# Altium integrated library Linear Technology Power Management Switching Regulator LTC1174-LTC3901.IntLib: 2647 symbols (part 185 of 364)
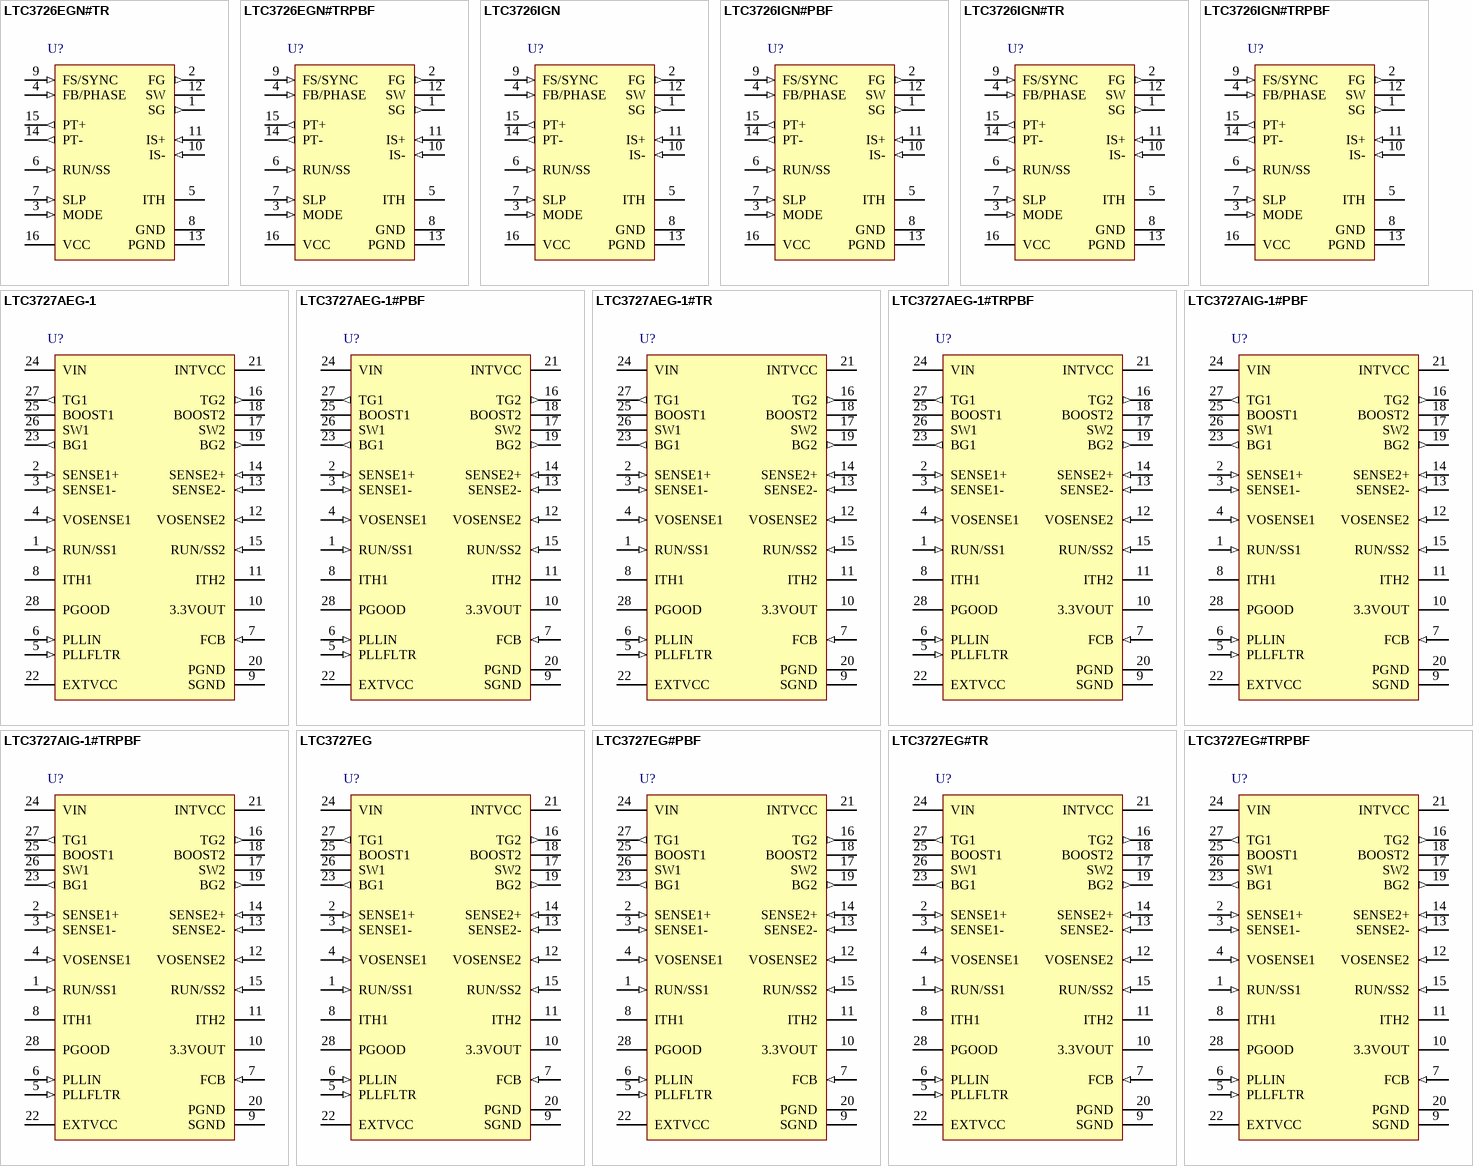
[diagram p309: symbols LTC3726EGN#TR to LTC3727EG#TRPBF]

## LTC3727AEG-1#TRPBF
designator U?
High Efficiency, 2-Phase Synchronous Step-Down Switching Regulator, 28-pin SOP (G-28), -40 to 85 degC, Pb-Free, Tape and Reel; Manufacturer: Linear Technology; PartNumber: LTC3727AEG-1#TRPBF; Frequency Sync Range: 250kHz - 550kHz; Number of Outputs: 2; DatasheetVersion: Rev. A; PackageVersion: Jun-10; PackageReference: G-28; PackageDescription: 28-Pin Plastic SSOP, Body 10.2 x 5.3 mm, Pitch 0.65 mm; Supplier 1: Digi-Key; Supplier Part Number 1: LTC3727AEG-1#TRPBF-ND; Packing: Tape and Reel; RoHS: TRUE; Mounting Technology: Surface Mount; ComponentLink1Description: Manufacturer URL; ComponentLink1URL: http://www.linear.com/; ComponentLink2Description: Datasheet; ComponentLink2URL: http://cds.linear.com/docs/en/datasheet/3727a1fa.pdf; ComponentLink3Description: Package Specification; ComponentLink3URL: http://cds.linear.com/docs/en/packaging/SSOP_28_05-08-1640.pdf
footprint LT-G-28_N (SOP, 28-Leads, Body 10.2x5.3mm, Pitch 0.65mm, IPC Medium Density)
footprint LT-G-28_L (SOP, 28-Leads, Body 10.2x5.3mm, Pitch 0.65mm, IPC High Density)
footprint LT-G-28_M (SOP, 28-Leads, Body 10.2x5.3mm, Pitch 0.65mm, IPC Low Density)
pins: 1 RUN/SS1 (in), 2 SENSE1+ (in) "The (+) Input to the Differential Current Comparators. The ITH pin voltage and controlled offsets between the SENSE- and SENSE+ pins in conjunction with RSENSE set the current trip threshold.", 3 SENSE1- (in) "The (-) Input to the Differential Current Comparators.", 4 VOSENSE1 (in) "Receives the remotely-sensed feedback voltage for each controller from an external resistive divider across the output.", 5 PLLFLTR (in) "The phase-locked loop’s lowpass filter is tied to this pin. Alternatively, this pin can be driven with an AC or DC voltage source to vary the frequency of the internal oscillator.", 6 PLLIN (in) "External Synchronization Input to Phase Detector. This pin is internally terminated to SGND with 50kohm. The phase-locked loop will force the rising top gate signal of controller 1 to be synchronized with the rising edge of (See Datasheet)", 7 FCB (in) "Forced Continuous Control Input. This input acts on both controllers and is normally used to regulate a secondary winding. Pulling this pin below 0.8V will force continuous synchronous operation. Do not leave this pin (See Datasheet)", 8 ITH1 "Error Amplifier Outputs and Switching Regulator Compensation Point. Each associated channels’ current comparator trip point increases with this control voltage.", 9 SGND (power) "Small Signal Ground. Common to both controllers; must be routed separately from high current grounds to the common (-) terminals of the COUT capacitors.", 10 3.3VOUT (power), 11 ITH2 "Error Amplifier Outputs and Switching Regulator Compensation Point. Each associated channels’ current comparator trip point increases with this control voltage.", 12 VOSENSE2 (in) "Receives the remotely-sensed feedback voltage for each controller from an external resistive divider across the output.", 13 SENSE2- (in) "The (-) Input to the Differential Current Comparators.", 14 SENSE2+ (in) "The (+) Input to the Differential Current Comparators. The ITH pin voltage and controlled offsets between the SENSE- and SENSE+ pins in conjunction with RSENSE set the current trip threshold.", 15 RUN/SS2 (in), 16 TG2 (out) "High Current Gate Drives for Top N-Channel MOSFETs. These are the outputs of floating drivers with a voltage swing equal to INTVCC - 0.5V superimposed on the switch node voltage SW.", 17 SW2 "Switch Node Connections to Inductors. Voltage swing at these pins is from a Schottky diode (external) voltage drop below ground to VIN.", 18 BOOST2 "Bootstrapped Supplies to the Top Side Floating Drivers. Capacitors are connected between the boost and switch pins and Schottky diodes are tied between the boost and INTVCC pins. Voltage swing at the boost pins is from (See Datasheet)", 19 BG2 (out) "High Current Gate Drives for Bottom (Synchronous) N-Channel MOSFETs. Voltage swing at these pins is from ground to INTVCC", 20 PGND (power) "Driver Power Ground. Connects to the sources of bottom (synchronous) N-channel MOSFETs, anodes of the Schottky rectifiers and the (-) terminal(s) of CIN.", 21 INTVCC (power), 22 EXTVCC (power), 23 BG1 (out) "High Current Gate Drives for Bottom (Synchronous) N-Channel MOSFETs. Voltage swing at these pins is from ground to INTVCC", 24 VIN (power) "Main Supply Pin. A bypass capacitor should be tied between this pin and the signal ground pin.", 25 BOOST1 "Bootstrapped Supplies to the Top Side Floating Drivers. Capacitors are connected between the boost and switch pins and Schottky diodes are tied between the boost and INTVCC pins. Voltage swing at the boost pins is from (See Datasheet)", 26 SW1 "Switch Node Connections to Inductors. Voltage swing at these pins is from a Schottky diode (external) voltage drop below ground to VIN.", 27 TG1 (out) "High Current Gate Drives for Top N-Channel MOSFETs. These are the outputs of floating drivers with a voltage swing equal to INTVCC - 0.5V superimposed on the switch node voltage SW.", 28 PGOOD (oc) "Open-Drain Logic Output. PGOOD is pulled to ground when the voltage on either VOSENSE pin is not within +/-7.5% of its set point."

## LTC3727AIG-1#PBF
designator U?
High Efficiency, 2-Phase Synchronous Step-Down Switching Regulator, 28-pin SOP (G-28), -40 to 85 degC, Pb-Free; Manufacturer: Linear Technology; PartNumber: LTC3727AIG-1#PBF; Frequency Sync Range: 250kHz - 550kHz; Number of Outputs: 2; DatasheetVersion: Rev. A; PackageVersion: Jun-10; PackageReference: G-28; PackageDescription: 28-Pin Plastic SSOP, Body 10.2 x 5.3 mm, Pitch 0.65 mm; Supplier 1: Digi-Key; Supplier Part Number 1: LTC3727AIG-1#PBF-ND; Supplier 2: Newark; Supplier Part Number 2: 71P8096; RoHS: TRUE; Mounting Technology: Surface Mount; ComponentLink1Description: Manufacturer URL; ComponentLink1URL: http://www.linear.com/; ComponentLink2Description: Datasheet; ComponentLink2URL: http://cds.linear.com/docs/en/datasheet/3727a1fa.pdf; ComponentLink3Description: Package Specification; ComponentLink3URL: http://cds.linear.com/docs/en/packaging/SSOP_28_05-08-1640.pdf
footprint LT-G-28_N (SOP, 28-Leads, Body 10.2x5.3mm, Pitch 0.65mm, IPC Medium Density)
footprint LT-G-28_L (SOP, 28-Leads, Body 10.2x5.3mm, Pitch 0.65mm, IPC High Density)
footprint LT-G-28_M (SOP, 28-Leads, Body 10.2x5.3mm, Pitch 0.65mm, IPC Low Density)
pins: 1 RUN/SS1 (in), 2 SENSE1+ (in) "The (+) Input to the Differential Current Comparators. The ITH pin voltage and controlled offsets between the SENSE- and SENSE+ pins in conjunction with RSENSE set the current trip threshold.", 3 SENSE1- (in) "The (-) Input to the Differential Current Comparators.", 4 VOSENSE1 (in) "Receives the remotely-sensed feedback voltage for each controller from an external resistive divider across the output.", 5 PLLFLTR (in) "The phase-locked loop’s lowpass filter is tied to this pin. Alternatively, this pin can be driven with an AC or DC voltage source to vary the frequency of the internal oscillator.", 6 PLLIN (in) "External Synchronization Input to Phase Detector. This pin is internally terminated to SGND with 50kohm. The phase-locked loop will force the rising top gate signal of controller 1 to be synchronized with the rising edge of (See Datasheet)", 7 FCB (in) "Forced Continuous Control Input. This input acts on both controllers and is normally used to regulate a secondary winding. Pulling this pin below 0.8V will force continuous synchronous operation. Do not leave this pin (See Datasheet)", 8 ITH1 "Error Amplifier Outputs and Switching Regulator Compensation Point. Each associated channels’ current comparator trip point increases with this control voltage.", 9 SGND (power) "Small Signal Ground. Common to both controllers; must be routed separately from high current grounds to the common (-) terminals of the COUT capacitors.", 10 3.3VOUT (power), 11 ITH2 "Error Amplifier Outputs and Switching Regulator Compensation Point. Each associated channels’ current comparator trip point increases with this control voltage.", 12 VOSENSE2 (in) "Receives the remotely-sensed feedback voltage for each controller from an external resistive divider across the output.", 13 SENSE2- (in) "The (-) Input to the Differential Current Comparators.", 14 SENSE2+ (in) "The (+) Input to the Differential Current Comparators. The ITH pin voltage and controlled offsets between the SENSE- and SENSE+ pins in conjunction with RSENSE set the current trip threshold.", 15 RUN/SS2 (in), 16 TG2 (out) "High Current Gate Drives for Top N-Channel MOSFETs. These are the outputs of floating drivers with a voltage swing equal to INTVCC - 0.5V superimposed on the switch node voltage SW.", 17 SW2 "Switch Node Connections to Inductors. Voltage swing at these pins is from a Schottky diode (external) voltage drop below ground to VIN.", 18 BOOST2 "Bootstrapped Supplies to the Top Side Floating Drivers. Capacitors are connected between the boost and switch pins and Schottky diodes are tied between the boost and INTVCC pins. Voltage swing at the boost pins is from (See Datasheet)", 19 BG2 (out) "High Current Gate Drives for Bottom (Synchronous) N-Channel MOSFETs. Voltage swing at these pins is from ground to INTVCC", 20 PGND (power) "Driver Power Ground. Connects to the sources of bottom (synchronous) N-channel MOSFETs, anodes of the Schottky rectifiers and the (-) terminal(s) of CIN.", 21 INTVCC (power), 22 EXTVCC (power), 23 BG1 (out) "High Current Gate Drives for Bottom (Synchronous) N-Channel MOSFETs. Voltage swing at these pins is from ground to INTVCC", 24 VIN (power) "Main Supply Pin. A bypass capacitor should be tied between this pin and the signal ground pin.", 25 BOOST1 "Bootstrapped Supplies to the Top Side Floating Drivers. Capacitors are connected between the boost and switch pins and Schottky diodes are tied between the boost and INTVCC pins. Voltage swing at the boost pins is from (See Datasheet)", 26 SW1 "Switch Node Connections to Inductors. Voltage swing at these pins is from a Schottky diode (external) voltage drop below ground to VIN.", 27 TG1 (out) "High Current Gate Drives for Top N-Channel MOSFETs. These are the outputs of floating drivers with a voltage swing equal to INTVCC - 0.5V superimposed on the switch node voltage SW.", 28 PGOOD (oc) "Open-Drain Logic Output. PGOOD is pulled to ground when the voltage on either VOSENSE pin is not within +/-7.5% of its set point."